# Altium integrated library STM32C031K6T6.IntLib: 2 symbols
Pins are listed as number, name and electrical type; pins without a type are passive.

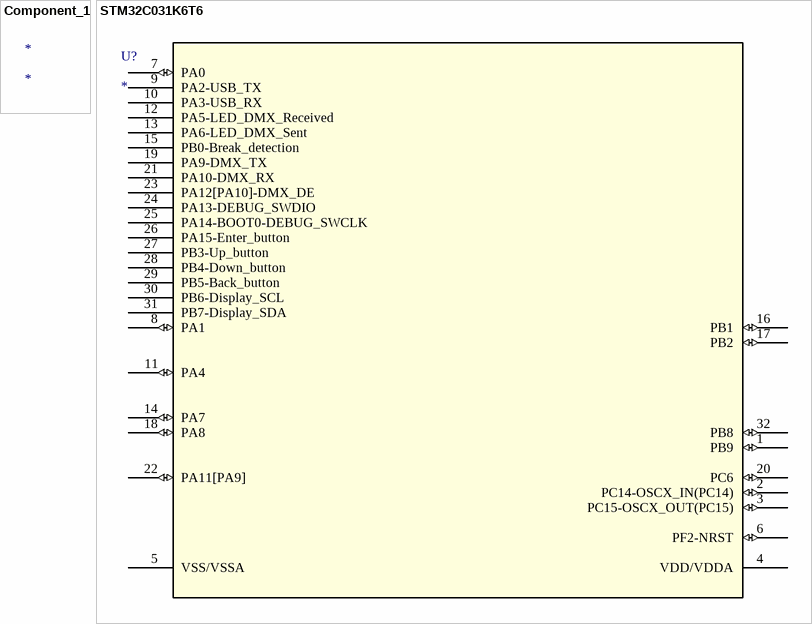
[diagram p0: symbols Component_1 to STM32C031K6T6]

## Component_1
designator *

## STM32C031K6T6
designator U?
No Description Available; Mfr_Name: STMicroelectronics; RefDes: RefDes; Type: Type
footprint LQFP32_7X7_STM
pins: 1 PB9 (io), 2 PC14-OSCX_IN(PC14) (io), 3 PC15-OSCX_OUT(PC15) (io), 4 VDD/VDDA (power), 5 VSS/VSSA (power), 6 PF2-NRST (io), 7 PA0 (io), 8 PA1 (io), 9 PA2-USB_TX, 10 PA3-USB_RX, 11 PA4 (io), 12 PA5-LED_DMX_Received, 13 PA6-LED_DMX_Sent, 14 PA7 (io), 15 PB0-Break_detection, 16 PB1 (io), 17 PB2 (io), 18 PA8 (io), 19 PA9-DMX_TX, 20 PC6 (io), 21 PA10-DMX_RX, 22 PA11[PA9] (io), 23 PA12[PA10]-DMX_DE, 24 PA13-DEBUG_SWDIO, 25 PA14-BOOT0-DEBUG_SWCLK, 26 PA15-Enter_button, 27 PB3-Up_button, 28 PB4-Down_button, 29 PB5-Back_button, 30 PB6-Display_SCL, 31 PB7-Display_SDA, 32 PB8 (io)